# Altium schematic symbol library STM32F1_CNC_HW.SchLib: 11 symbols
Pins are listed as number, name and electrical type; pins without a type are passive.

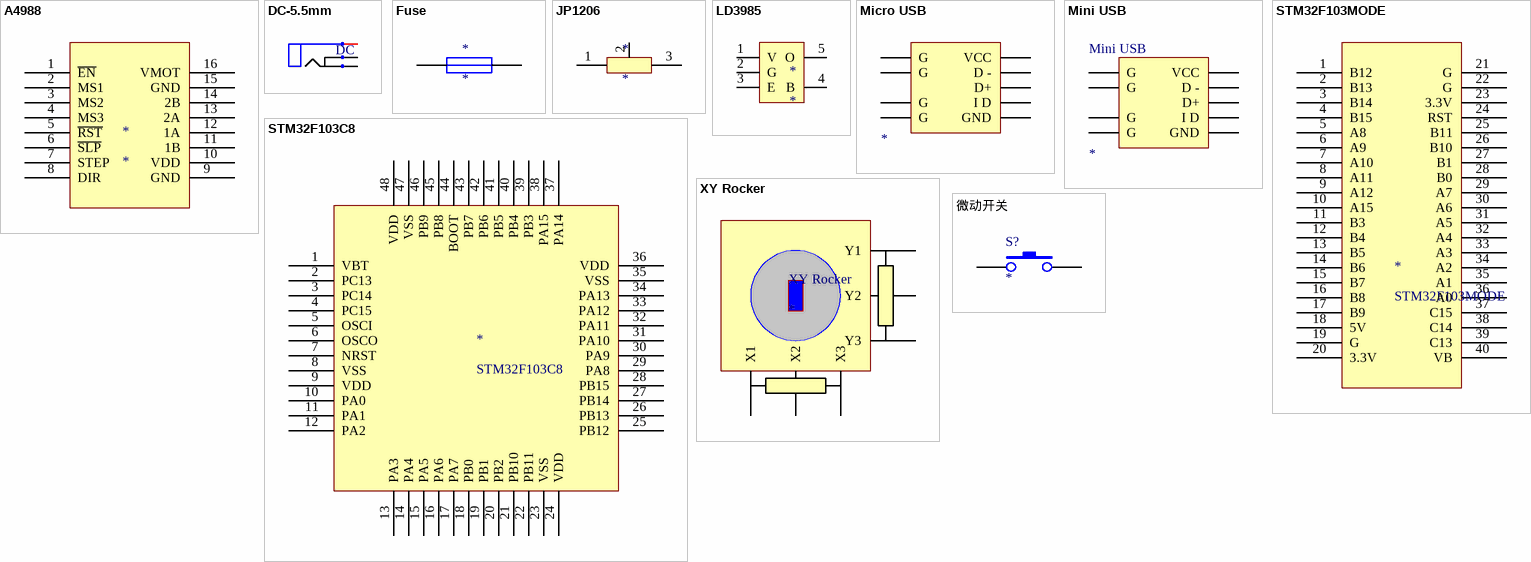
[diagram p0: symbols A4988 to 微动开关]

## A4988
designator *
footprint A4988
pins: 1 ~{EN}, 2 MS1, 3 MS2, 4 MS3, 5 ~{RST}, 6 ~{SLP}, 7 STEP, 8 DIR, 9 GND, 10 VDD, 11 1B, 12 1A, 13 2A, 14 2B, 15 GND, 16 VMOT

## DC-5.5mm
designator DC, comment DC  (value not drawn)
footprint DC7-12V
pins: 1 (power), 2 (power), 3 (power)

## Fuse
designator *
pins: 1, 2

## JP1206
designator *
footprint JP1206
pins: 1, 2, 3

## LD3985
designator *
footprint SOT-25
pins: 1 V, 2 G, 3 E, 4 B, 5 O

## Micro USB
designator *  (value not drawn)
footprint USB-Micro-NJ
pins: 0 G, 0 G, 0 G, 0 G, 1 VCC, 2 D -, 3 D+, 4 I D, 5 GND

## Mini USB
designator *
footprint USB-mini-S
pins: 0 G, 0 G, 0 G, 0 G, 1 VCC, 2 D -, 3 D+, 4 I D, 5 GND

## STM32F103C8
designator *
footprint QFP48
pins: 1 VBT, 2 PC13, 3 PC14, 4 PC15, 5 OSCI, 6 OSCO, 7 NRST, 8 VSS, 9 VDD, 10 PA0, 11 PA1, 12 PA2, 13 PA3, 14 PA4, 15 PA5, 16 PA6, 17 PA7, 18 PB0, 19 PB1, 20 PB2, 21 PB10, 22 PB11, 23 VSS, 24 VDD, 25 PB12, 26 PB13, 27 PB14, 28 PB15, 29 PA8, 30 PA9, 31 PA10, 32 PA11, 33 PA12, 34 PA13, 35 VSS, 36 VDD, 37 PA14, 38 PA15, 39 PB3, 40 PB4, 41 PB5, 42 PB6, 43 PB7, 44 BOOT, 45 PB8, 46 PB9, 47 VSS, 48 VDD

## STM32F103MODE
designator *
footprint PCBComponent_1
pins: 1 B12, 2 B13, 3 B14, 4 B15, 5 A8, 6 A9, 7 A10, 8 A11, 9 A12, 10 A15, 11 B3, 12 B4, 13 B5, 14 B6, 15 B7, 16 B8, 17 B9, 18 5V, 19 G, 20 3.3V, 21 G, 22 G, 23 3.3V, 24 RST, 25 B11, 26 B10, 27 B1, 28 B0, 29 A7, 30 A6, 31 A5, 32 A4, 33 A3, 34 A2, 35 A1, 36 A0, 37 C15, 38 C14, 39 C13, 40 VB

## XY Rocker
designator XY Rocker
footprint XY Rocker
pins: X1, X2, X3, Y1, Y2, Y3

## 微动开关
designator S?
pins: 1, 2